# EAGLE library part PCM2912 (library toslink)
AUDIO CODEC WITH USB INTERFACE, MONO MICROPHONE INPUT AND STEREO HEADPHONE OUTPUT
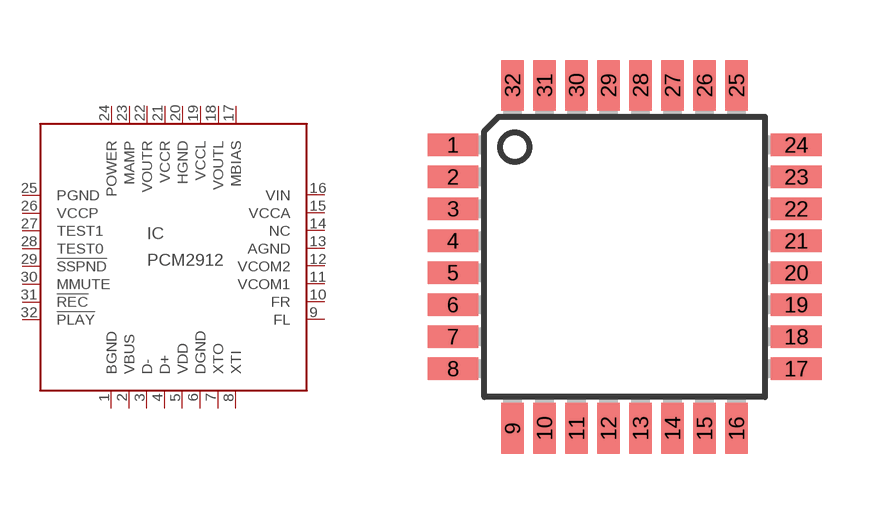
[diagram p9: symbol with the pads of TQFP32-08; footprint TQFP32-08]

Designator prefix IC

## PCM2912  [TQFP32-08]
1  BGND  pwr
2  VBUS  pwr
3  D-
4  D+
5  VDD  pwr
6  DGND  pwr
7  XTO  out
8  XTI  in
9  FL  pas
10  FR  pas
11  VCOM1  pwr
12  VCOM2  pwr
13  AGND  pwr
14  NC  nc
15  VCCA  pwr
16  VIN  in
17  MBIAS  out
18  VOUTL  out
19  VCCL  pwr
20  HGND  pwr
21  VCCR  pwr
22  VOUTR  out
23  MAMP  in
24  POWER  in
25  PGND  pwr
26  VCCP  pwr
27  TEST1  in
28  TEST0  in
29  !SSPND  out
30  MMUTE  in
31  !REC  out
32  !PLAY  out

## Footprint TQFP32-08 (pad centres in mm)
Thin Plasic Quad Flat Package Grid 0.8 mm
smd 1.27 x 0.559: 1 -4.293,2.8; 2 -4.293,2; 3 -4.293,1.2; 4 -4.293,0.4; 5 -4.293,-0.4; 6 -4.293,-1.2; 7 -4.293,-2; 8 -4.293,-2.8; 17 4.293,-2.8; 18 4.293,-2; 19 4.293,-1.2; 20 4.293,-0.4; 21 4.293,0.4; 22 4.293,1.2; 23 4.293,2; 24 4.293,2.8
smd 0.559 x 1.27: 9 -2.8,-4.293; 10 -2,-4.293; 11 -1.2,-4.293; 12 -0.4,-4.293; 13 0.4,-4.293; 14 1.2,-4.293; 15 2,-4.293; 16 2.8,-4.293; 25 2.8,4.293; 26 2,4.293; 27 1.2,4.293; 28 0.4,4.293; 29 -0.4,4.293; 30 -1.2,4.293; 31 -2,4.293; 32 -2.8,4.293